# Altium footprint library NCP161ASN330T1G.PcbLib: 3 footprints
Each footprint in its own frame and in the unit in brackets; x right, y up, seen from the top. Pads: shape width x height; smd on the part's side, far side on the other; paste and mask are expansions set on the pad; w line width, h text height; cw(c..) or ccw(c..) is an arc to the next point about the centre after c.
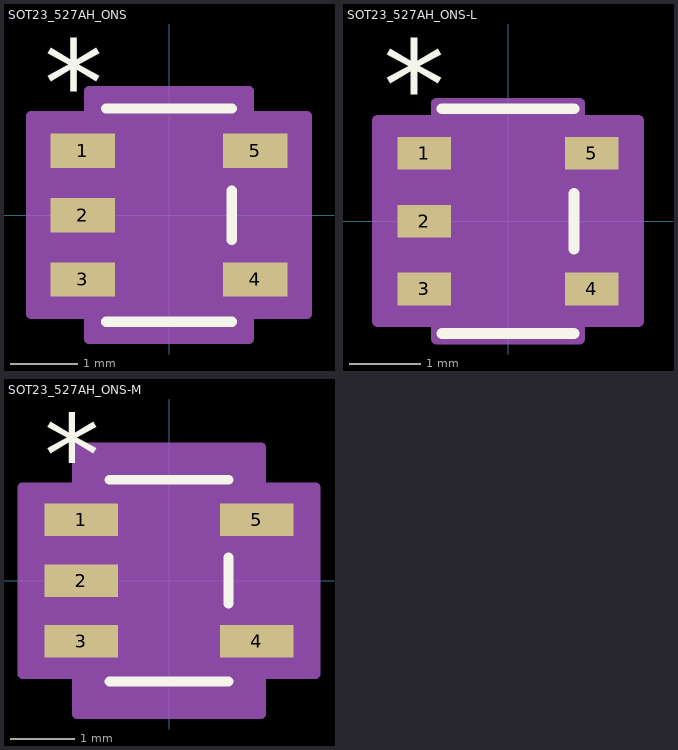
[diagram p0: the footprints below, top view; thin cyan lines are the x and y axes]

## SOT23_527AH_ONS [mil]
pads (5):
  rect 37.28x20 smd paste+0 mask+0: 1(-50.14,37.4) 2(-50.14,0) 3(-50.14,-37.4) 4(50.14,-37.4) 5(50.14,37.4)
Top Overlay:
  lines w6: -36.5,-62 36.5,-62 ; -36.5,62 36.5,62 ; 36.5,-14.3 36.5,14.3
  text ".Designator" at -137.5,-25 h50
  text "*" at -72.64,52.4 h50
Mechanical 13:
  lines w1: -12,57 ccw(c0,57) 12,57 ; -55,-47.4 -55,-27.4 -31.5,-27.4 -31.5,-47.4 -55,-47.4 ; -55,-10 -55,10 -31.5,10 -31.5,-10 -55,-10 ; -55,27.4 -55,47.4 -31.5,47.4 -31.5,27.4 -55,27.4 ; -31.5,-57 31.5,-57 31.5,57 -31.5,57 -31.5,-57 ; 31.5,-47.4 31.5,-27.4 55,-27.4 55,-47.4 31.5,-47.4 ; 31.5,27.4 31.5,47.4 55,47.4 55,27.4 31.5,27.4
  text "*" at -34,9.4 h50
  text ".Designator" at -137.5,-25 h50
Mechanical 15:
  region: 46.5,-72 -46.5,-72 -46.5,-57.4 -80,-57.4 -80,57.4 -46.5,57.4 -46.5,72 46.5,72 46.5,57.4 80,57.4 80,-57.4 46.5,-57.4
  lines w6: -80,-57.4 -46.5,-57.4 -46.5,-72 46.5,-72 46.5,-57.4 80,-57.4 80,57.4 46.5,57.4 46.5,72 -46.5,72 -46.5,57.4 -80,57.4 -80,-57.4
3D body "SOT23_527AH_ONS.step": height 57.09, standoff 0, extent -55,-57.01 55,57.01

## SOT23_527AH_ONS-L [mm]
pads (5):
  rect 0.747x0.458 smd paste+0 mask+0: 1(-1.174,0.95) 2(-1.174,0) 3(-1.174,-0.95) 4(1.174,-0.95) 5(1.174,0.95)
Top Overlay:
  lines w0.152: -0.927,-1.575 0.927,-1.575 ; -0.927,1.575 0.927,1.575 ; 0.927,-0.388 0.927,0.388
  text ".Designator" at -3.492,-0.635 h1.27
  text "*" at -1.745,1.281 h1.27
Mechanical 13:
  lines w0.025: -0.305,1.448 ccw(c0,1.448) 0.305,1.448 ; -1.397,-1.204 -1.397,-0.696 -0.8,-0.696 -0.8,-1.204 -1.397,-1.204 ; -1.397,-0.254 -1.397,0.254 -0.8,0.254 -0.8,-0.254 -1.397,-0.254 ; -1.397,0.696 -1.397,1.204 -0.8,1.204 -0.8,0.696 -1.397,0.696 ; -0.8,-1.448 0.8,-1.448 0.8,1.448 -0.8,1.448 -0.8,-1.448 ; 0.8,-1.204 0.8,-0.696 1.397,-0.696 1.397,-1.204 0.8,-1.204 ; 0.8,0.696 0.8,1.204 1.397,1.204 1.397,0.696 0.8,0.696
  text "*" at -0.864,0.189 h1.27
  text ".Designator" at -3.492,-0.635 h1.27
Mechanical 15:
  region: 1.003,-1.651 -1.003,-1.651 -1.003,-1.408 -1.829,-1.408 -1.829,1.408 -1.003,1.408 -1.003,1.651 1.003,1.651 1.003,1.408 1.829,1.408 1.829,-1.408 1.003,-1.408
  lines w0.152: -1.829,-1.408 -1.003,-1.408 -1.003,-1.651 1.003,-1.651 1.003,-1.408 1.829,-1.408 1.829,1.408 1.003,1.408 1.003,1.651 -1.003,1.651 -1.003,1.408 -1.829,1.408 -1.829,-1.408
3D body "SOT23_527AH_ONS.step": height 1.45, standoff 0, extent -1.397,-1.448 1.397,1.448

## SOT23_527AH_ONS-M [mil]
pads (5):
  rect 45.15x20 smd paste+0 mask+0: 1(-54.08,37.4) 2(-54.08,0) 3(-54.08,-37.4) 4(54.08,-37.4) 5(54.08,37.4)
Top Overlay:
  lines w6: -36.5,-62 36.5,-62 ; -36.5,62 36.5,62 ; 36.5,-14.3 36.5,14.3
  text ".Designator" at -137.5,-25 h50
  text "*" at -76.58,52.4 h50
Mechanical 13:
  lines w1: -12,57 ccw(c0,57) 12,57 ; -55,-47.4 -55,-27.4 -31.5,-27.4 -31.5,-47.4 -55,-47.4 ; -55,-10 -55,10 -31.5,10 -31.5,-10 -55,-10 ; -55,27.4 -55,47.4 -31.5,47.4 -31.5,27.4 -55,27.4 ; -31.5,-57 31.5,-57 31.5,57 -31.5,57 -31.5,-57 ; 31.5,-47.4 31.5,-27.4 55,-27.4 55,-47.4 31.5,-47.4 ; 31.5,27.4 31.5,47.4 55,47.4 55,27.4 31.5,27.4
  text "*" at -34,9.4 h50
  text ".Designator" at -137.5,-25 h50
Mechanical 15:
  region: 56.5,-82 -56.5,-82 -56.5,-57.4 -90,-57.4 -90,57.4 -56.5,57.4 -56.5,82 56.5,82 56.5,57.4 90,57.4 90,-57.4 56.5,-57.4
  lines w6: -90,-57.4 -56.5,-57.4 -56.5,-82 56.5,-82 56.5,-57.4 90,-57.4 90,57.4 56.5,57.4 56.5,82 -56.5,82 -56.5,57.4 -90,57.4 -90,-57.4
3D body "SOT23_527AH_ONS.step": height 57.09, standoff 0, extent -55,-57.01 55,57.01